# EAGLE library part TPS5420QDRQ1 (library TPS5420QDRQ1)
Voltage Regulators - Switching Regulators 2A Wide-Input-Range Step-Down Converter Source: Datasheet <http://www.ti.com/lit/ds/symlink/tps5420-q1.pdf>
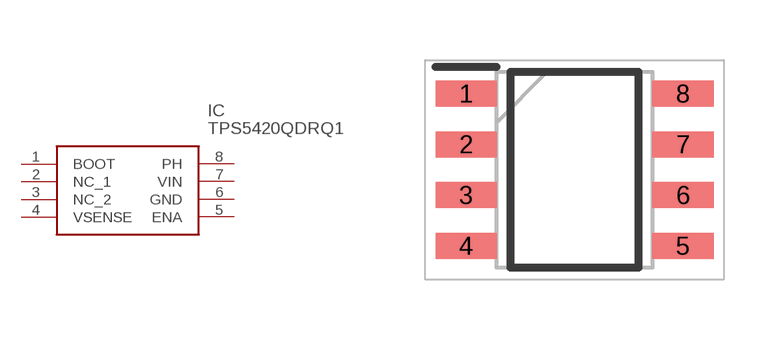
[diagram p0: symbol with the pads of SOIC127P600X175-8N; footprint SOIC127P600X175-8N]

Designator prefix IC

## TPS5420QDRQ1 (Description: Voltage Regulators - Switching Regulators 2A Wide-Input-Range Step-Down Converter; Height: 1.75mm; Manufacturer_Name: Texas Instruments; Manufacturer_Part_Number: TPS5420QDRQ1; Mouser_Part_Number: 595-TPS5420QDRQ1; Mouser_Price-Stock: https://www.mouser.co.uk/ProductDetail/Texas-Instruments/TPS5420QDRQ1?qs=wkx8pu8tL7J7TtwDHJoKDw%3D%3D)  [SOIC127P600X175-8N]
1  BOOT
2  NC_1
3  NC_2
4  VSENSE
5  ENA
6  GND
7  VIN
8  PH

## Footprint SOIC127P600X175-8N (pad centres in mm)
D0008A
smd 1.528 x 0.65: 1 -2.711,1.905; 2 -2.711,0.635; 3 -2.711,-0.635; 4 -2.711,-1.905; 5 2.711,-1.905; 6 2.711,-0.635; 7 2.711,0.635; 8 2.711,1.905